# EAGLE library part ACS723 (library zkseagle)
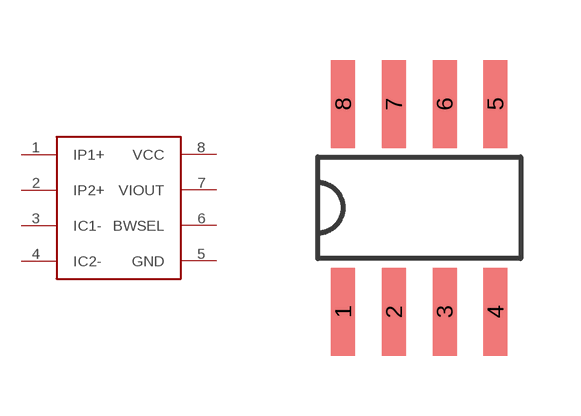
[diagram p21: symbol with the pads of SO8; footprint SO8]

Designator prefix -

## ACS723  [SO8]
1  IP1+  pas
2  IP2+  pas
3  IC1-  pas
4  IC2-  pas
5  GND  pwr
6  BWSEL  in
7  VIOUT  out
8  VCC  pwr

## Footprint SO8 (pad centres in mm)
SMALL OUTLINE INTEGRATED CIRCUIT SOP-8L Source: http://www.diodes.com/datasheets/ds31262.pdf
smd 0.6 x 2.2: 1 -1.905,-2.6; 2 -0.635,-2.6; 3 0.635,-2.6; 4 1.905,-2.6; 5 1.905,2.6; 6 0.635,2.6; 7 -0.635,2.6; 8 -1.905,2.6